# Altium footprint library WCAP-FTXX.PcbLib: 72 footprints (part 1 of 5)
Each footprint in its own frame and in the unit in brackets; x right, y up, seen from the top. Pads: shape width x height; smd on the part's side, far side on the other; paste and mask are expansions set on the pad; w line width, h text height; cw(c..) or ccw(c..) is an arc to the next point about the centre after c.
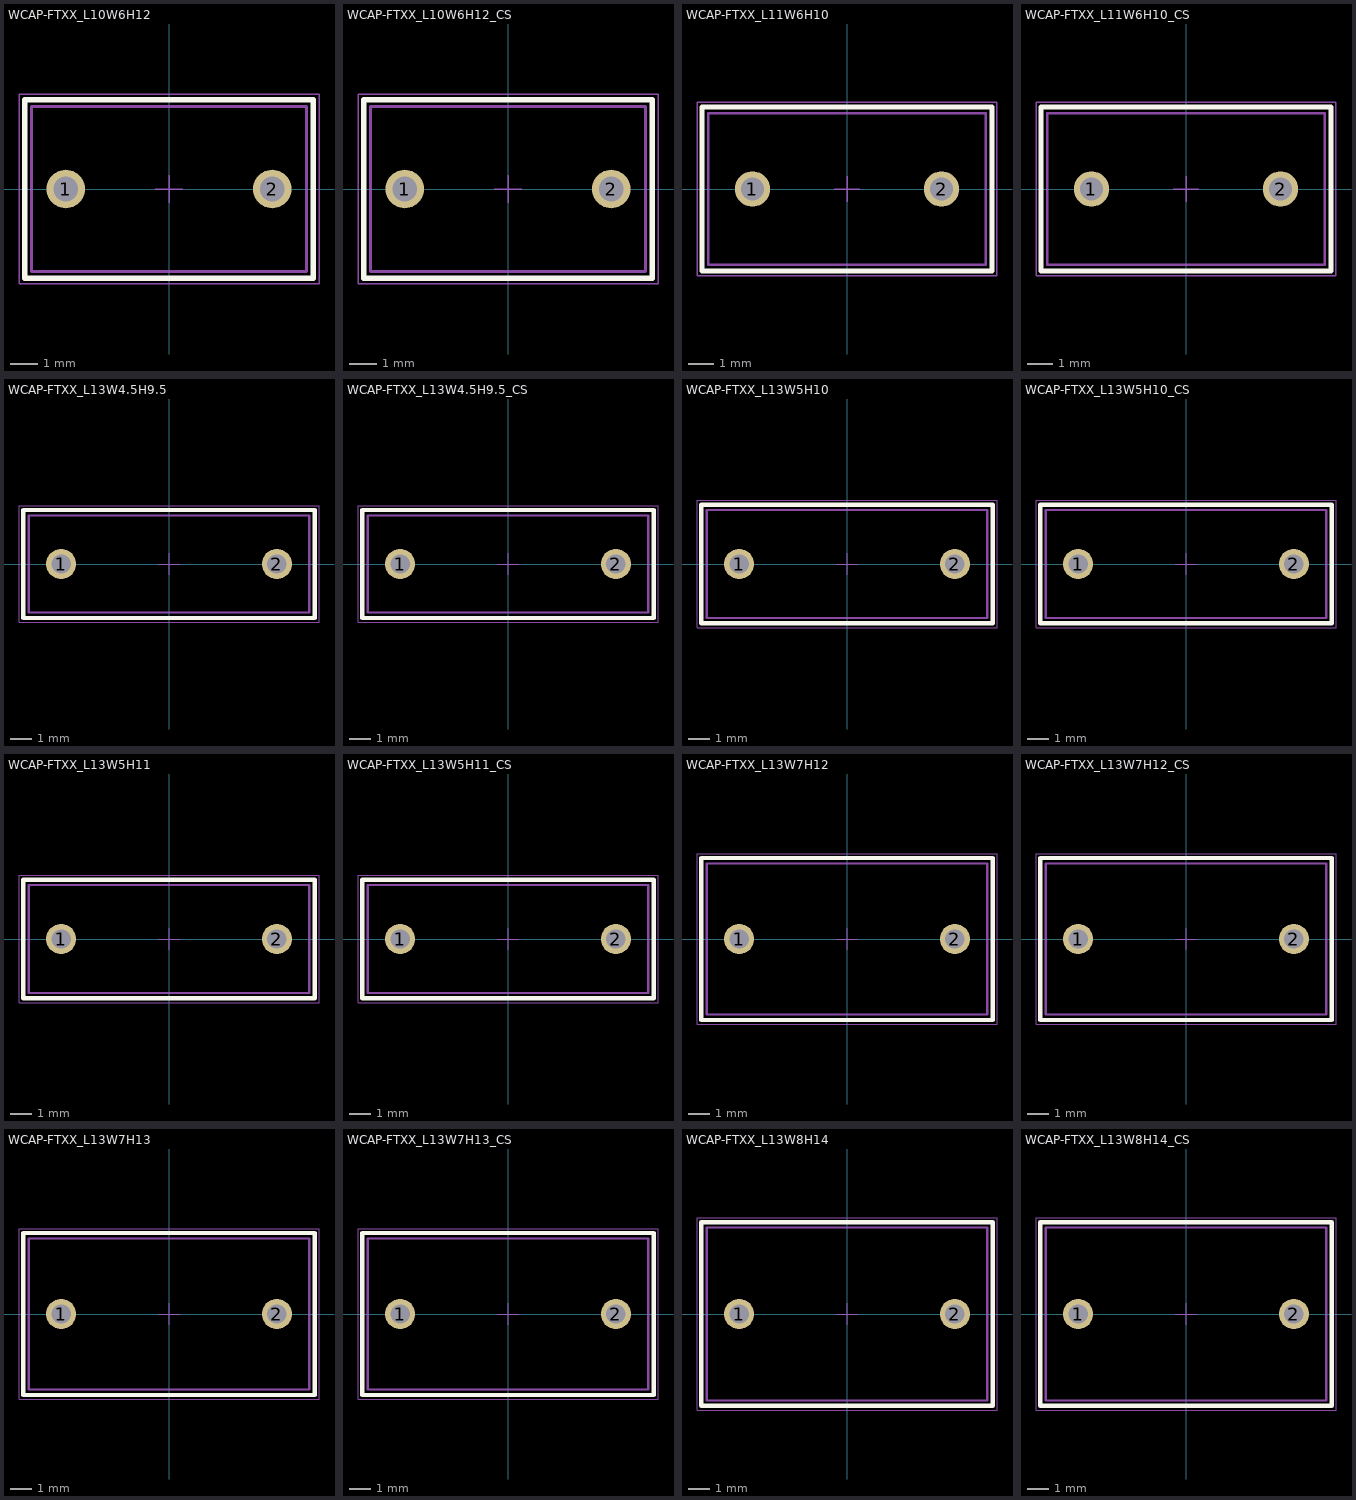
[diagram p0: the footprints below, top view; thin cyan lines are the x and y axes]

## WCAP-FTXX_L10W6H12 [mm] "Film Capacitors, 10x6x12mm"
height 12
pads (2):
  round 1.4 hole 0.9: 1(-3.75,0) 2(3.75,0)
Top Overlay:
  lines w0.2: -5.25,-3.25 5.25,-3.25 5.25,3.25 -5.25,3.25 -5.25,-3.25
Top Designator:
  text ".Designator" at -7.498,-0.5 h1.5
Top Component Outline:
  lines w0.1: -5,-3 5,-3 5,3 -5,3 -5,-3
Top Courtyard:
  lines w0.05: -5.45,-3.45 5.45,-3.45 5.45,3.45 -5.45,3.45 -5.45,-3.45
Top Component Center:
  lines w0.05: -0.5,0 0.5,0 ; 0,-0.5 0,0.5
3D body "7,5x10x12x6.stp": height 12.05, standoff -19.95, extent -5,-3 5,3

## WCAP-FTXX_L10W6H12_CS [mm] "Film Capacitors, 10x6x12mm"
height 12
pads (2):
  round 1.4 hole 0.9: 1(-3.75,0) 2(3.75,0)
Top Overlay:
  lines w0.2: -5.25,-3.25 -5.25,3.25 5.25,3.25 5.25,-3.25 -5.25,-3.25
Top Designator:
  text ".Designator" at -7.498,-0.5 h1.5
Top Component Outline:
  lines w0.1: -5,-3 -5,3 5,3 5,-3 -5,-3
Top Courtyard:
  lines w0.05: -5.45,-3.45 -5.45,3.45 5.45,3.45 5.45,-3.45 -5.45,-3.45
Top Component Center:
  lines w0.05: -0.5,0 0.5,0 ; 0,-0.5 0,0.5
3D body "7,5x10x12x6_CS.stp": height 12.05, standoff -3.95, extent -5,-3 5,3

## WCAP-FTXX_L11W6H10 [mm] "Film Capacitors, 11x6x10mm"
height 10
pads (2):
  round 1.4 hole 0.9: 1(-3.75,0) 2(3.75,0)
Top Overlay:
  lines w0.2: -5.75,-3.25 -5.75,3.25 5.75,3.25 5.75,-3.25 -5.75,-3.25
Top Designator:
  text ".Designator" at -7.498,-0.5 h1.5
Top Component Outline:
  lines w0.1: -5.5,-3 5.5,-3 5.5,3 -5.5,3 -5.5,-3
Top Courtyard:
  lines w0.05: -5.95,-3.45 -5.95,3.45 5.95,3.45 5.95,-3.45 -5.95,-3.45
Top Component Center:
  lines w0.05: -0.5,0 0.5,0 ; 0,-0.5 0,0.5
3D body "7,5x11x10x6.stp": height 10.35, standoff -19.95, extent -5.5,-3 5.5,3

## WCAP-FTXX_L11W6H10_CS [mm] "Film Capacitors, 11x6x10mm"
height 10
pads (2):
  round 1.4 hole 0.9: 1(-3.75,0) 2(3.75,0)
Top Overlay:
  lines w0.2: -5.75,-3.25 -5.75,3.25 5.75,3.25 5.75,-3.25 -5.75,-3.25
Top Designator:
  text ".Designator" at -7.498,-0.5 h1.5
Top Component Outline:
  lines w0.1: -5.5,-3 5.5,-3 5.5,3 -5.5,3 -5.5,-3
Top Courtyard:
  lines w0.05: -5.95,-3.45 -5.95,3.45 5.95,3.45 5.95,-3.45 -5.95,-3.45
Top Component Center:
  lines w0.05: -0.5,0 0.5,0 ; 0,-0.5 0,0.5
3D body "7,5x11x10x6_CS.stp": height 10.05, standoff -3.95, extent -5.5,-3 5.5,3

## WCAP-FTXX_L13W4.5H9.5 [mm] "Film Capacitors, 13x4.5x9.5mm"
height 9.5
pads (2):
  round 1.4 hole 0.9: 1(-5,0) 2(5,0)
Top Overlay:
  lines w0.2: -6.75,-2.5 6.75,-2.5 6.75,2.5 -6.75,2.5 -6.75,-2.5
Top Designator:
  text ".Designator" at -7.498,-0.5 h1.5
Top Component Outline:
  lines w0.1: -6.5,-2.25 -6.5,2.25 6.5,2.25 6.5,-2.25 -6.5,-2.25
Top Courtyard:
  lines w0.05: -6.95,-2.7 6.95,-2.7 6.95,2.7 -6.95,2.7 -6.95,-2.7
Top Component Center:
  lines w0.05: -0.5,0 0.5,0 ; 0,-0.5 0,0.5
3D body "10x13x9,5x4,5.stp": height 9.55, standoff -19.95, extent -6.5,-2.25 6.5,2.25

## WCAP-FTXX_L13W4.5H9.5_CS [mm] "Film Capacitors, 13x4.5x9.5mm"
height 9.5
pads (2):
  round 1.4 hole 0.9: 1(-5,0) 2(5,0)
Top Overlay:
  lines w0.2: -6.75,-2.5 6.75,-2.5 6.75,2.5 -6.75,2.5 -6.75,-2.5
Top Designator:
  text ".Designator" at -7.498,-0.5 h1.5
Top Component Outline:
  lines w0.1: -6.5,-2.25 -6.5,2.25 6.5,2.25 6.5,-2.25 -6.5,-2.25
Top Courtyard:
  lines w0.05: -6.95,-2.7 6.95,-2.7 6.95,2.7 -6.95,2.7 -6.95,-2.7
Top Component Center:
  lines w0.05: -0.5,0 0.5,0 ; 0,-0.5 0,0.5
3D body "10x13x9,5x4,5_CS.stp": height 9.55, standoff -3.95, extent -6.5,-2.25 6.5,2.25

## WCAP-FTXX_L13W5H10 [mm] "Film Capacitors, 13x5x10mm"
height 10
pads (2):
  round 1.4 hole 0.9: 1(-5,0) 2(5,0)
Top Overlay:
  lines w0.2: -6.75,-2.75 -6.75,2.75 6.75,2.75 6.75,-2.75 -6.75,-2.75
Top Designator:
  text ".Designator" at -7.498,-0.5 h1.5
Top Component Outline:
  lines w0.1: -6.5,-2.5 -6.5,2.5 6.5,2.5 6.5,-2.5 -6.5,-2.5
Top Courtyard:
  lines w0.05: -6.95,-2.95 -6.95,2.95 6.95,2.95 6.95,-2.95 -6.95,-2.95
Top Component Center:
  lines w0.05: -0.5,0 0.5,0 ; 0,-0.5 0,0.5
3D body "10x13x10x5.stp": height 10.05, standoff -19.95, extent -6.5,-2.5 6.5,2.5

## WCAP-FTXX_L13W5H10_CS [mm] "Film Capacitors, 13x5x10mm"
height 10
pads (2):
  round 1.4 hole 0.9: 1(-5,0) 2(5,0)
Top Overlay:
  lines w0.2: -6.75,-2.75 -6.75,2.75 6.75,2.75 6.75,-2.75 -6.75,-2.75
Top Designator:
  text ".Designator" at -7.498,-0.5 h1.5
Top Component Outline:
  lines w0.1: -6.5,-2.5 -6.5,2.5 6.5,2.5 6.5,-2.5 -6.5,-2.5
Top Courtyard:
  lines w0.05: -6.95,-2.95 -6.95,2.95 6.95,2.95 6.95,-2.95 -6.95,-2.95
Top Component Center:
  lines w0.05: -0.5,0 0.5,0 ; 0,-0.5 0,0.5
3D body "10x13x10x5_CS.stp": height 10.05, standoff -3.95, extent -6.5,-2.5 6.5,2.5

## WCAP-FTXX_L13W5H11 [mm] "Film Capacitors, 13x5x11mm"
height 11
pads (2):
  round 1.4 hole 0.9: 1(-5,0) 2(5,0)
Top Overlay:
  lines w0.2: -6.75,-2.75 6.75,-2.75 6.75,2.75 -6.75,2.75 -6.75,-2.75
Top Designator:
  text ".Designator" at -7.498,-0.5 h1.5
Top Component Outline:
  lines w0.1: -6.5,-2.5 6.5,-2.5 6.5,2.5 -6.5,2.5 -6.5,-2.5
Top Courtyard:
  lines w0.05: -6.95,-2.95 6.95,-2.95 6.95,2.95 -6.95,2.95 -6.95,-2.95
Top Component Center:
  lines w0.05: -0.5,0 0.5,0 ; 0,-0.5 0,0.5
3D body "10x13x11x5.stp": height 11.05, standoff -19.95, extent -6.5,-2.5 6.5,2.5

## WCAP-FTXX_L13W5H11_CS [mm] "Film Capacitors, 13x5x11mm"
height 11
pads (2):
  round 1.4 hole 0.9: 1(-5,0) 2(5,0)
Top Overlay:
  lines w0.2: -6.75,-2.75 -6.75,2.75 6.75,2.75 6.75,-2.75 -6.75,-2.75
Top Designator:
  text ".Designator" at -7.498,-0.5 h1.5
Top Component Outline:
  lines w0.1: -6.5,-2.5 -6.5,2.5 6.5,2.5 6.5,-2.5 -6.5,-2.5
Top Courtyard:
  lines w0.05: -6.95,-2.95 -6.95,2.95 6.95,2.95 6.95,-2.95 -6.95,-2.95
Top Component Center:
  lines w0.05: -0.5,0 0.5,0 ; 0,-0.5 0,0.5
3D body "10x13x11x5.stp": height 11.05, standoff -3.95, extent -6.5,-2.5 6.5,2.5

## WCAP-FTXX_L13W7H12 [mm] "Film Capacitors, 13x7x12mm"
height 12
pads (2):
  round 1.4 hole 0.9: 1(-5,0) 2(5,0)
Top Overlay:
  lines w0.2: -6.75,-3.75 6.75,-3.75 6.75,3.75 -6.75,3.75 -6.75,-3.75
Top Designator:
  text ".Designator" at -7.498,-0.5 h1.5
Top Component Outline:
  lines w0.1: -6.5,-3.5 -6.5,3.5 6.5,3.5 6.5,-3.5 -6.5,-3.5
Top Courtyard:
  lines w0.05: -6.95,-3.95 6.95,-3.95 6.95,3.95 -6.95,3.95 -6.95,-3.95
Top Component Center:
  lines w0.05: -0.5,0 0.5,0 ; 0,-0.5 0,0.5
3D body "10x13x12x7.stp": height 12.05, standoff -19.95, extent -6.5,-3.5 6.5,3.5

## WCAP-FTXX_L13W7H12_CS [mm] "Film Capacitors, 13x7x12mm"
height 12
pads (2):
  round 1.4 hole 0.9: 1(-5,0) 2(5,0)
Top Overlay:
  lines w0.2: -6.75,-3.75 -6.75,3.75 6.75,3.75 6.75,-3.75 -6.75,-3.75
Top Designator:
  text ".Designator" at -7.498,-0.5 h1.5
Top Component Outline:
  lines w0.1: -6.5,-3.5 6.5,-3.5 6.5,3.5 -6.5,3.5 -6.5,-3.5
Top Courtyard:
  lines w0.05: -6.95,-3.95 -6.95,3.95 6.95,3.95 6.95,-3.95 -6.95,-3.95
Top Component Center:
  lines w0.05: -0.5,0 0.5,0 ; 0,-0.5 0,0.5
3D body "10x13x12x7_CS.stp": height 12.05, standoff -3.95, extent -6.5,-3.5 6.5,3.5

## WCAP-FTXX_L13W7H13 [mm] "Film Capacitors, 13x7x13mm"
height 13
pads (2):
  round 1.4 hole 0.9: 1(-5,0) 2(5,0)
Top Overlay:
  lines w0.2: -6.75,-3.75 6.75,-3.75 6.75,3.75 -6.75,3.75 -6.75,-3.75
Top Designator:
  text ".Designator" at -7.498,-0.5 h1.5
Top Component Outline:
  lines w0.1: -6.5,-3.5 -6.5,3.5 6.5,3.5 6.5,-3.5 -6.5,-3.5
Top Courtyard:
  lines w0.05: -6.95,-3.95 6.95,-3.95 6.95,3.95 -6.95,3.95 -6.95,-3.95
Top Component Center:
  lines w0.05: -0.5,0 0.5,0 ; 0,-0.5 0,0.5
3D body "10x13x13x7.stp": height 13.05, standoff -19.95, extent -6.5,-3.5 6.5,3.5

## WCAP-FTXX_L13W7H13_CS [mm] "Film Capacitors, 13x7x13mm"
height 13
pads (2):
  round 1.4 hole 0.9: 1(-5,0) 2(5,0)
Top Overlay:
  lines w0.2: -6.75,-3.75 6.75,-3.75 6.75,3.75 -6.75,3.75 -6.75,-3.75
Top Designator:
  text ".Designator" at -7.498,-0.5 h1.5
Top Component Outline:
  lines w0.1: -6.5,-3.5 -6.5,3.5 6.5,3.5 6.5,-3.5 -6.5,-3.5
Top Courtyard:
  lines w0.05: -6.95,-3.95 6.95,-3.95 6.95,3.95 -6.95,3.95 -6.95,-3.95
Top Component Center:
  lines w0.05: -0.5,0 0.5,0 ; 0,-0.5 0,0.5
3D body "10x13x13x7_CS.stp": height 13.05, standoff -3.95, extent -6.5,-3.5 6.5,3.5

## WCAP-FTXX_L13W8H14 [mm] "Film Capacitors, 13x8x14mm"
height 14
pads (2):
  round 1.4 hole 0.9: 1(-5,0) 2(5,0)
Top Overlay:
  lines w0.2: -6.75,-4.25 6.75,-4.25 6.75,4.25 -6.75,4.25 -6.75,-4.25
Top Designator:
  text ".Designator" at -7.498,-0.5 h1.5
Top Component Outline:
  lines w0.1: -6.5,-4 6.5,-4 6.5,4 -6.5,4 -6.5,-4
Top Courtyard:
  lines w0.05: -6.95,-4.45 6.95,-4.45 6.95,4.45 -6.95,4.45 -6.95,-4.45
Top Component Center:
  lines w0.05: -0.5,0 0.5,0 ; 0,-0.5 0,0.5
3D body "10x13x14x8.stp": height 14.05, standoff -19.95, extent -6.5,-4 6.5,4

## WCAP-FTXX_L13W8H14_CS [mm] "Film Capacitors, 13x8x14mm"
height 14
pads (2):
  round 1.4 hole 0.9: 1(-5,0) 2(5,0)
Top Overlay:
  lines w0.2: -6.75,-4.25 -6.75,4.25 6.75,4.25 6.75,-4.25 -6.75,-4.25
Top Designator:
  text ".Designator" at -7.498,-0.5 h1.5
Top Component Outline:
  lines w0.1: -6.5,-4 -6.5,4 6.5,4 6.5,-4 -6.5,-4
Top Courtyard:
  lines w0.05: -6.95,-4.45 -6.95,4.45 6.95,4.45 6.95,-4.45 -6.95,-4.45
Top Component Center:
  lines w0.05: -0.5,0 0.5,0 ; 0,-0.5 0,0.5
3D body "10x13x14x8_CS.stp": height 14.05, standoff -3.95, extent -6.5,-4 6.5,4